# Altium schematic symbol library Copy of curvetracer (2).Schlib: 14 symbols
Pins are listed as number, name and electrical type; pins without a type are passive.

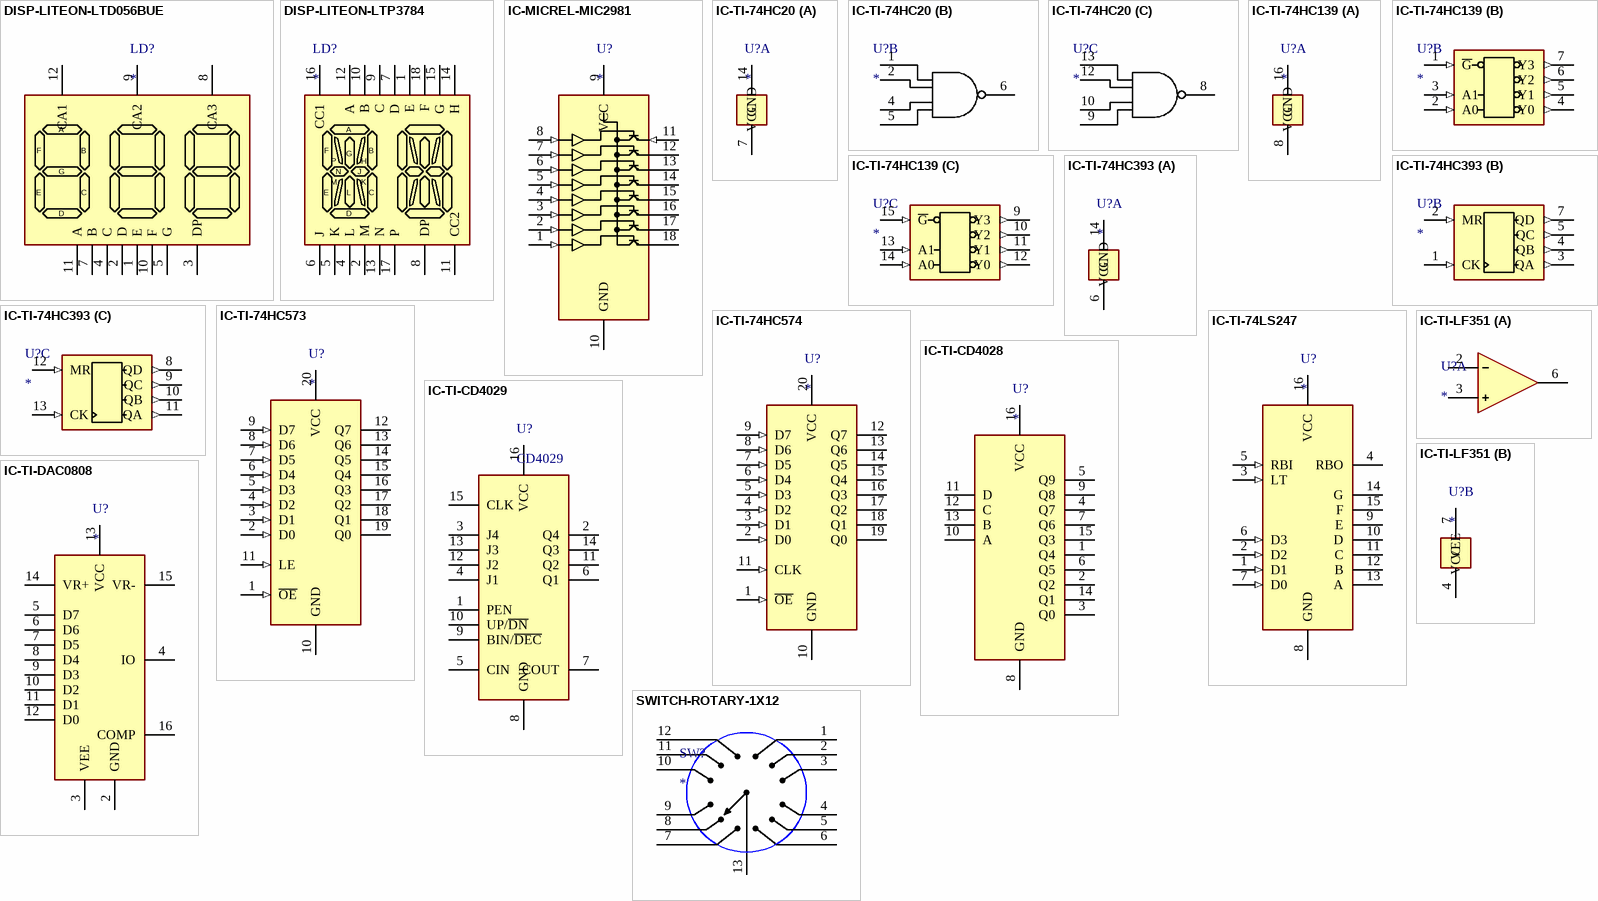
[diagram p0: symbols DISP-LITEON-LTD056BUE to SWITCH-ROTARY-1X12]

## DISP-LITEON-LTD056BUE
designator LD?
pins: 1 E, 2 D, 3 DP, 4 C, 5 G, 7 B, 8 CA3, 9 CA2, 10 F, 11 A, 12 CA1

## DISP-LITEON-LTP3784
designator LD?
pins: 1 E, 2 M, 4 L, 5 K, 6 J, 7 D, 8 DP, 9 C, 10 B, 11 CC2, 12 A, 13 N, 14 H, 15 G, 16 CC1, 17 P, 18 F

## IC-MICREL-MIC2981
designator U?
OCTAL BUS LATCH
pins: 1 ~{OE} (in), 2 D0 (in), 3 D1 (in), 4 D2 (in), 5 D3 (in), 6 D4 (in), 7 D5 (in), 8 D6 (in), 9 VCC, 10 GND, 11 LE (in), 12 Q7 (hiz), 13 Q6 (hiz), 14 Q5 (hiz), 15 Q4 (hiz), 16 Q3 (hiz), 17 Q2 (hiz), 18 Q1 (hiz)

## IC-TI-74HC20
designator U?
DUAL 4-INPUT NAND
part A pins: 7 GND, 14 VCC
part B pins: 1 1A, 2 1B, 4 1C, 5 1D, 6 1Y
part C pins: 8 2Y, 9 2A, 10 2B, 12 2C, 13 2D

## IC-TI-74HC139
designator U?
DUAL 2-TO-4 DECODER
part A pins: 8 GND, 16 VCC
part B pins: 1 ~{G} (in), 2 A0 (in), 3 A1 (in), 4 Y0 (out), 5 Y1 (out), 6 Y2 (out), 7 Y3 (out)
part C pins: 9 Y3 (out), 10 Y2 (out), 11 Y1 (out), 12 Y0 (out), 13 A1 (in), 14 A0 (in), 15 ~{G} (in)

## IC-TI-74HC393
designator U?
DUAL 4 BIT COUNTER
part A pins: 6 GND, 14 VCC
part B pins: 1 CK (in), 2 MR (in), 3 QA (out), 4 QB (out), 5 QC (out), 7 QD (out)
part C pins: 8 QD (out), 9 QC (out), 10 QB (out), 11 QA (out), 12 MR (in), 13 CK (in)

## IC-TI-74HC573
designator U?
OCTAL BUS LATCH
pins: 1 ~{OE} (in), 2 D0 (in), 3 D1 (in), 4 D2 (in), 5 D3 (in), 6 D4 (in), 7 D5 (in), 8 D6 (in), 9 D7 (in), 10 GND, 11 LE (in), 12 Q7 (hiz), 13 Q6 (hiz), 14 Q5 (hiz), 15 Q4 (hiz), 16 Q3 (hiz), 17 Q2 (hiz), 18 Q1 (hiz), 19 Q0 (hiz), 20 VCC

## IC-TI-74HC574
designator U?
OCTAL BUS REGISTER
pins: 1 ~{OE} (in), 2 D0 (in), 3 D1 (in), 4 D2 (in), 5 D3 (in), 6 D4 (in), 7 D5 (in), 8 D6 (in), 9 D7 (in), 10 GND, 11 CLK (in), 12 Q7 (hiz), 13 Q6 (hiz), 14 Q5 (hiz), 15 Q4 (hiz), 16 Q3 (hiz), 17 Q2 (hiz), 18 Q1 (hiz), 19 Q0 (hiz), 20 VCC

## IC-TI-74LS247
designator U?
BCD TO 7-SEGMENT DECODER
pins: 1 D1 (in), 2 D2 (in), 3 LT (in), 4 RBO, 5 RBI (in), 6 D3 (in), 7 D0 (in), 8 GND (power), 9 E, 10 D, 11 C, 12 B, 13 A, 14 G, 15 F, 16 VCC (power)

## IC-TI-CD4028
designator U?
BCD TO DECIMAL DECODER
pins: 1 Q4, 2 Q2, 3 Q0, 4 Q7, 5 Q9, 6 Q5, 7 Q6, 8 GND, 9 Q8, 10 A, 11 D, 12 C, 13 B, 14 Q1, 15 Q3, 16 VCC

## IC-TI-CD4029
designator U?, comment CD4029
PRESETTABLE UP/DOWN BINARY/DECIMAL COUNTER
pins: 1 PEN, 2 Q4, 3 J4, 4 J1, 5 CIN, 6 Q1, 7 COUT, 8 GND, 9 BIN/~{DEC}, 10 UP/~{DN}, 11 Q2, 12 J2, 13 J3, 14 Q3, 15 CLK, 16 VCC

## IC-TI-DAC0808
designator U?
8 BIT DAC
pins: 2 GND, 3 VEE, 4 IO, 5 D7, 6 D6, 7 D5, 8 D4, 9 D3, 10 D2, 11 D1, 12 D0, 13 VCC, 14 VR+, 15 VR-, 16 COMP

## IC-TI-LF351
designator U?
part A pins: 2 -, 3 +, 6 O
part B pins: 4 VEE, 7 VCC

## SWITCH-ROTARY-1X12
designator SW?
pins: 1, 2, 3, 4, 5, 6, 7, 8, 9, 10, 11, 12, 13 C